# Altium schematic symbol library PMIC-VoltageRegulators-DCDCSwitchingRegulators.SchLib: 7 symbols
Pins are listed as number, name and electrical type; pins without a type are passive.

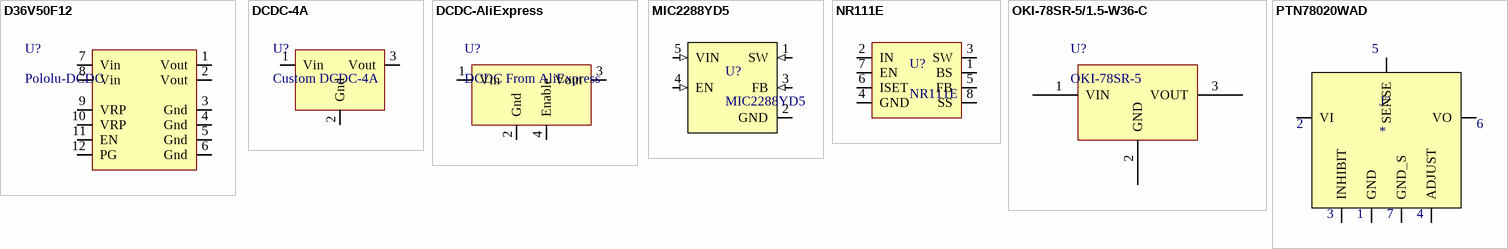
[diagram p0: symbols D36V50F12 to PTN78020WAD]

## D36V50F12
designator U?, comment Pololu-DCDC
Grade: None; Supplier 1: Emile; Supplier Part Number 1: N/A; HelpURL: https://github.com/mimil2014/4A-DC-DC; Package / Case: Custom; Mounted: Yes
footprint D36V50F12 (Connector; Header; 2 Position)
pins: 1 Vout, 2 Vout, 3 Gnd, 4 Gnd, 5 Gnd, 6 Gnd, 7 Vin, 8 Vin, 9 VRP, 10 VRP, 11 EN, 12 PG

## DCDC-4A
designator U?, comment Custom DCDC-4A
Custom PCB DCDC-4A; Grade: None; Supplier 1: Emile; Supplier Part Number 1: N/A; HelpURL: https://github.com/mimil2014/4A-DC-DC; Package / Case: Custom; Mounted: Yes
footprint DC-DC-4A (Connector; Header; 2 Position)
pins: 1 Vin, 2 Gnd, 3 Vout

## DCDC-AliExpress
designator U?, comment DCDC From AliExpress
DCDC Able to do 1.8v, 2.5v, 3.3v, 5v, 9v and 12v; Grade: None; Supplier 1: Aliexpress; Supplier Part Number 1: N/A; Mounted: Yes
footprint DCDC-AliExpress (Non-Isolated Switching Regulator DC-DC TO-220)
pins: 1 Vin, 2 Gnd, 3 Vout, 4 Enable

## MIC2288YD5
designator U?
Boost Switching Regulator IC Positive Adjustable 2.5V 1 Output 1.2A (Switch) SOT-23-5 Thin, TSOT-23-5; Grade: None; Supplier 1: Digi-Key; Supplier Part Number 1: 576-1729-2-ND; HelpURL: https://ww1.microchip.com/downloads/en/DeviceDoc/MIC2288-Data-Sheet-DS20006034C.pdf; Package / Case: SOT23; Mounted: Yes
footprint SOT-23-5 (SOT23-5, from TI DDC (R-PDSO-G6), modified from 6 to 5 pins)
pins: 1 SW (in), 2 GND (power), 3 FB (in), 4 EN (in), 5 VIN (in)

## NR111E
designator U?
IC REG BUCK ADJUSTABLE 4A 8SOIC; Grade: None; Supplier 1: Digi-Key; Supplier Part Number 1: NR111ECT-ND; HelpURL: https://www.digikey.ca/en/products/detail/sanken/NR111E/4289131; Package / Case: 8-SOIC-EP; Mounted: Yes
footprint SOIC-8-EXPOSED-PAD (8-Lead Plastic Small Outline, 0.15in pitch,  LTC DWG # 05-08-1610 Rev G)
pins: 1 BS, 2 IN, 3 SW, 4 GND, 5 FB, 6 ISET, 7 EN, 8 SS, 9 GND

## OKI-78SR-5/1.5-W36-C
designator U?, comment OKI-78SR-5
DC DC CONVERTER 5V 8W; Manufacturer: Murata Power Solutions Inc.; Manufacturer Part Number: OKI-78SR-5/1.5-W36-C; Voltage - Input (Min): 7V; Voltage - Input (Max): 36V; Current - Output (Max): 1.5A; Efficiency: 90.5%; Supplier 1: Digi-Key; RoHS: RoHS Compliant; Category: Power Supplies - Board Mount; Stock 1: 43226; Pricing 1: 1=6.02, 5=5.964, 10=5.922, 25=5.8376, 50=5.6556, 100=5.2916, 250=5.04568 (CAD); Packaging: Tray; Part Status: Active; Type: Linear Regulator Replacement; Voltage - Output 1: 5V; Voltage - Output 2: -; Voltage - Output 3: -; Applications: ITE (Commercial); Features: SCP; Operating Temperature: -40°C ~ 85°C; Mounting Type: Through Hole; Package / Case: 3-SIP Module; Size / Dimension: 0.41" L x 0.30" W x 0.65" H (10.4mm x 7.6mm x 16.5mm); Control Features: -; ComponentLink1URL: https://power.murata.com/data/power/oki-78sr.pdf; ComponentLink1Description: https://power.murata.com/data/power/oki-78sr.pdf; Supplier Part Number 1: 811-2196-5-ND
footprint OKI-78SR (Non-Isolated Switching Regulator DC-DC TO-220)
footprint OKI-78SR-HM (Non-Isolated Switching Regulator DC-DC TO-220 horizontal mount)
pins: 1 VIN (power), 2 GND (power), 3 VOUT (power)

## PTN78020WAD
designator J?
Package: None; Price: None; Value: *; Supplier Part Number 1: PTN78020WAD; Availability: Unavailable
footprint PTN78020WAD
pins: 1 GND, 2 VI, 3 INHIBIT, 4 ADJUST, 5 SENSE, 6 VO, 7 GND_S